# EAGLE library part TS5A23159 (library My_TI)
TS5A23159 1-Ω 2-Channel SPDT Analog Switch 5-V / 3.3-V 2-Channel 2:1 Multiplexer / Demultiplexer. Datasheet <http://www.ti.com/lit/ds/symlink/ts5a23159.pdf>
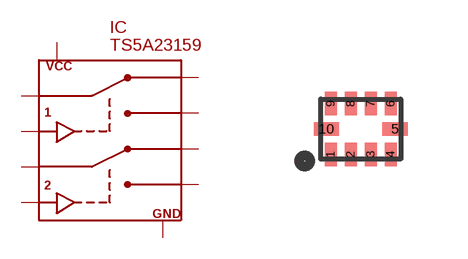
[diagram p28: symbol with the pads of UQFN-10; footprint UQFN-10]

Designator prefix IC

## TS5A23159  [UQFN-10]
1  1
2  2
3  3
4  4
5  5
6  6
7  7
8  8
9  9
10  10

## Footprint UQFN-10 (pad centres in mm)
smd 0.3 x 0.58: 1 -0.75,-0.635; 2 -0.25,-0.635; 3 0.25,-0.635; 4 0.75,-0.635; 6 0.75,0.635; 7 0.25,0.635; 8 -0.25,0.635; 9 -0.75,0.635
smd 0.63 x 0.35: 5 0.86,0; 10 -0.86,0